# Altium footprint library headers.PcbLib: 1 footprints
Each footprint in its own frame and in the unit in brackets; x right, y up, seen from the top. Pads: shape width x height; smd on the part's side, far side on the other; paste and mask are expansions set on the pad; w line width, h text height; cw(c..) or ccw(c..) is an arc to the next point about the centre after c.
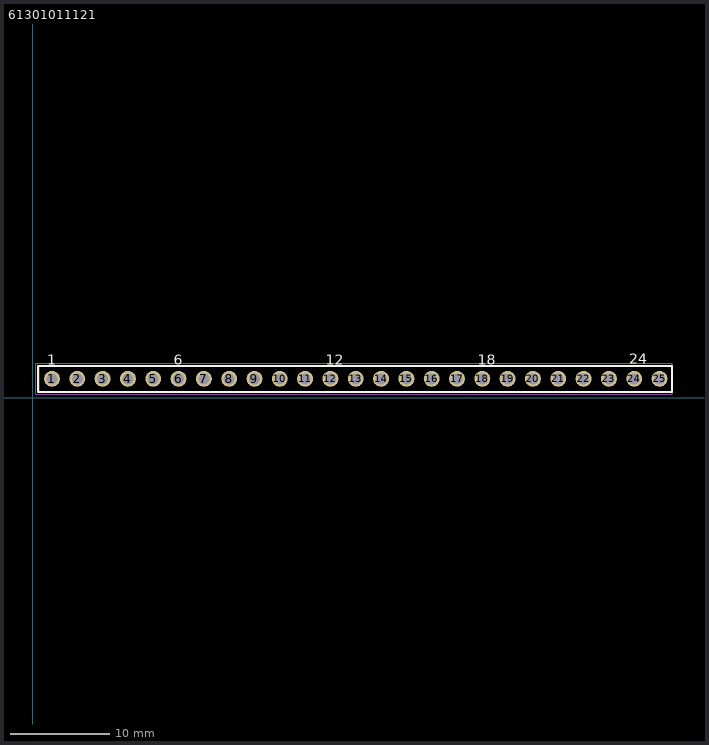
[diagram p0: the footprint, top view; thin cyan lines are the x and y axes]

## 61301011121 [mm] "Pin Header, pitch 2.54 mm, THT, Vertical, single row, 10p"
height 8.54
pads (25):
  round 1.6 hole 1.1: 1(1.905,1.905) 2(4.445,1.905) 3(6.985,1.905) 4(9.525,1.905) 5(12.065,1.905) 6(14.605,1.905) 7(17.145,1.905) 8(19.685,1.905) 9(22.225,1.905) 10(24.765,1.905) 11(27.305,1.905) 12(29.845,1.905) 13(32.385,1.905) 14(34.925,1.905) 15(37.465,1.905) 16(40.005,1.905) 17(42.545,1.905) 18(45.085,1.905) 19(47.625,1.905) 20(50.165,1.905) 21(52.705,1.905) 22(55.245,1.905) 23(57.785,1.905) 24(60.325,1.905) 25(62.865,1.905)
Top Overlay:
  lines w0.2: 0.485,0.56 64.135,0.56 64.135,3.175 0.485,3.175 0.485,0.56
  text "24" at 59.842,3.402 h1.02
  text "12" at 29.362,3.327 h1.02
  text "1" at 1.422,3.327 h1.02
  text "6" at 14.122,3.327 h1.02
  text "18" at 44.602,3.327 h1.02
Mechanical 13:
  lines w0.1: 0.635,0.635 64.135,0.635 64.135,3.175 0.635,3.175 0.635,0.635
Mechanical 15:
  lines w0.05: 0.285,0.36 0.285,3.45 64.135,3.45 64.135,0.36 0.285,0.36